# Altium footprint library BGA (1.27mm Pitch, Square4).PcbLib: 21 footprints (part 4 of 6)
Each footprint in its own frame and in the unit in brackets; x right, y up, seen from the top. Pads: shape width x height; smd on the part's side, far side on the other; paste and mask are expansions set on the pad; w line width, h text height; cw(c..) or ccw(c..) is an arc to the next point about the centre after c.
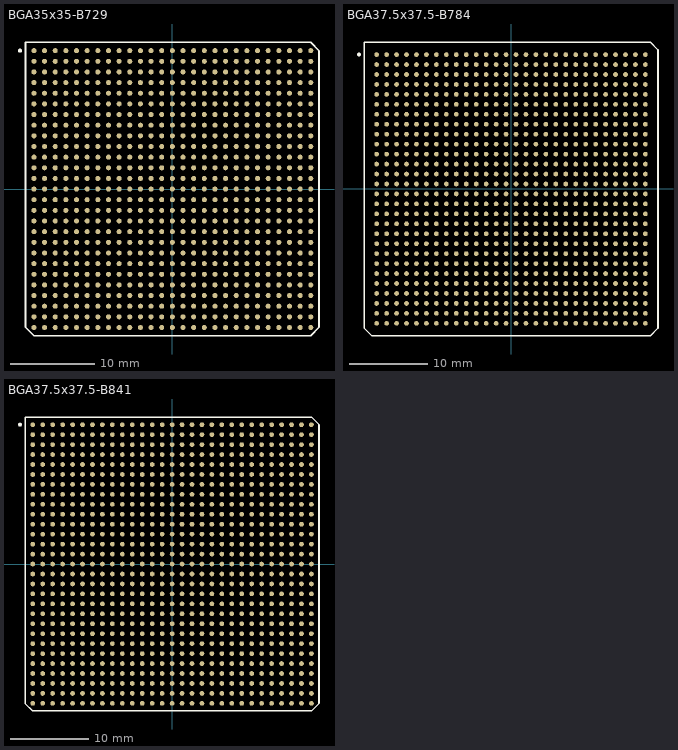
[diagram p3: the footprints below, top view; thin cyan lines are the x and y axes]

## BGA35x35-B729 [mm] "729-Pin Plastic Ball Grid Array (PBGA)"
height 2.54
pads (729):
  round 0.6 smd: A1(-16.51,16.51) A2(-15.24,16.51) A3(-13.97,16.51) A4(-12.7,16.51) A5(-11.43,16.51) A6(-10.16,16.51) A7(-8.89,16.51) A8(-7.62,16.51) A9(-6.35,16.51) A10(-5.08,16.51) A11(-3.81,16.51) A12(-2.54,16.51) A13(-1.27,16.51) A14(0,16.51) A15(1.27,16.51) A16(2.54,16.51) A17(3.81,16.51) A18(5.08,16.51) A19(6.35,16.51) A20(7.62,16.51) A21(8.89,16.51) A22(10.16,16.51) A23(11.43,16.51) A24(12.7,16.51) A25(13.97,16.51) A26(15.24,16.51) A27(16.51,16.51) AA1(-16.51,-8.89) AA2(-15.24,-8.89) AA3(-13.97,-8.89) AA4(-12.7,-8.89) AA5(-11.43,-8.89) AA6(-10.16,-8.89) AA7(-8.89,-8.89) AA8(-7.62,-8.89) AA9(-6.35,-8.89) AA10(-5.08,-8.89) AA11(-3.81,-8.89) AA12(-2.54,-8.89) AA13(-1.27,-8.89) AA14(0,-8.89) AA15(1.27,-8.89) AA16(2.54,-8.89) AA17(3.81,-8.89) AA18(5.08,-8.89) AA19(6.35,-8.89) AA20(7.62,-8.89) AA21(8.89,-8.89) AA22(10.16,-8.89) AA23(11.43,-8.89) AA24(12.7,-8.89) AA25(13.97,-8.89) AA26(15.24,-8.89) AA27(16.51,-8.89) AB1(-16.51,-10.16) AB2(-15.24,-10.16) AB3(-13.97,-10.16) AB4(-12.7,-10.16) AB5(-11.43,-10.16) AB6(-10.16,-10.16) AB7(-8.89,-10.16) AB8(-7.62,-10.16) AB9(-6.35,-10.16) AB10(-5.08,-10.16) AB11(-3.81,-10.16) AB12(-2.54,-10.16) AB13(-1.27,-10.16) AB14(0,-10.16) AB15(1.27,-10.16) AB16(2.54,-10.16) AB17(3.81,-10.16) AB18(5.08,-10.16) AB19(6.35,-10.16) AB20(7.62,-10.16) AB21(8.89,-10.16) AB22(10.16,-10.16) AB23(11.43,-10.16) AB24(12.7,-10.16) AB25(13.97,-10.16) AB26(15.24,-10.16) AB27(16.51,-10.16) AC1(-16.51,-11.43) AC2(-15.24,-11.43) AC3(-13.97,-11.43) AC4(-12.7,-11.43) AC5(-11.43,-11.43) AC6(-10.16,-11.43) AC7(-8.89,-11.43) AC8(-7.62,-11.43) AC9(-6.35,-11.43) AC10(-5.08,-11.43) AC11(-3.81,-11.43) AC12(-2.54,-11.43) AC13(-1.27,-11.43) AC14(0,-11.43) AC15(1.27,-11.43) AC16(2.54,-11.43) AC17(3.81,-11.43) AC18(5.08,-11.43) AC19(6.35,-11.43) AC20(7.62,-11.43) AC21(8.89,-11.43) AC22(10.16,-11.43) AC23(11.43,-11.43) AC24(12.7,-11.43) AC25(13.97,-11.43) AC26(15.24,-11.43) AC27(16.51,-11.43) AD1(-16.51,-12.7) AD2(-15.24,-12.7) AD3(-13.97,-12.7) AD4(-12.7,-12.7) AD5(-11.43,-12.7) AD6(-10.16,-12.7) AD7(-8.89,-12.7) AD8(-7.62,-12.7) AD9(-6.35,-12.7) AD10(-5.08,-12.7) AD11(-3.81,-12.7) AD12(-2.54,-12.7) AD13(-1.27,-12.7) AD14(0,-12.7) AD15(1.27,-12.7) AD16(2.54,-12.7) AD17(3.81,-12.7) AD18(5.08,-12.7) AD19(6.35,-12.7) AD20(7.62,-12.7) AD21(8.89,-12.7) AD22(10.16,-12.7) AD23(11.43,-12.7) AD24(12.7,-12.7) AD25(13.97,-12.7) AD26(15.24,-12.7) AD27(16.51,-12.7) AE1(-16.51,-13.97) AE2(-15.24,-13.97) AE3(-13.97,-13.97) AE4(-12.7,-13.97) AE5(-11.43,-13.97) AE6(-10.16,-13.97) AE7(-8.89,-13.97) AE8(-7.62,-13.97) AE9(-6.35,-13.97) AE10(-5.08,-13.97) AE11(-3.81,-13.97) AE12(-2.54,-13.97) AE13(-1.27,-13.97) AE14(0,-13.97) AE15(1.27,-13.97) AE16(2.54,-13.97) AE17(3.81,-13.97) AE18(5.08,-13.97) AE19(6.35,-13.97) AE20(7.62,-13.97) AE21(8.89,-13.97) AE22(10.16,-13.97) AE23(11.43,-13.97) AE24(12.7,-13.97) AE25(13.97,-13.97) AE26(15.24,-13.97) AE27(16.51,-13.97) AF1(-16.51,-15.24) AF2(-15.24,-15.24) AF3(-13.97,-15.24) AF4(-12.7,-15.24) AF5(-11.43,-15.24) AF6(-10.16,-15.24) AF7(-8.89,-15.24) AF8(-7.62,-15.24) AF9(-6.35,-15.24) AF10(-5.08,-15.24) AF11(-3.81,-15.24) AF12(-2.54,-15.24) AF13(-1.27,-15.24) AF14(0,-15.24) AF15(1.27,-15.24) AF16(2.54,-15.24) AF17(3.81,-15.24) AF18(5.08,-15.24) AF19(6.35,-15.24) AF20(7.62,-15.24) AF21(8.89,-15.24) AF22(10.16,-15.24) AF23(11.43,-15.24) AF24(12.7,-15.24) AF25(13.97,-15.24) AF26(15.24,-15.24) AF27(16.51,-15.24) AG1(-16.51,-16.51) AG2(-15.24,-16.51) AG3(-13.97,-16.51) AG4(-12.7,-16.51) AG5(-11.43,-16.51) AG6(-10.16,-16.51) AG7(-8.89,-16.51) AG8(-7.62,-16.51) AG9(-6.35,-16.51) AG10(-5.08,-16.51) AG11(-3.81,-16.51) AG12(-2.54,-16.51) AG13(-1.27,-16.51) AG14(0,-16.51) AG15(1.27,-16.51) AG16(2.54,-16.51) AG17(3.81,-16.51) AG18(5.08,-16.51) AG19(6.35,-16.51) AG20(7.62,-16.51) AG21(8.89,-16.51) AG22(10.16,-16.51) AG23(11.43,-16.51) AG24(12.7,-16.51) AG25(13.97,-16.51) AG26(15.24,-16.51) AG27(16.51,-16.51) B1(-16.51,15.24) B2(-15.24,15.24) B3(-13.97,15.24) B4(-12.7,15.24) B5(-11.43,15.24) B6(-10.16,15.24) B7(-8.89,15.24) B8(-7.62,15.24) B9(-6.35,15.24) B10(-5.08,15.24) B11(-3.81,15.24) B12(-2.54,15.24) B13(-1.27,15.24) B14(0,15.24) B15(1.27,15.24) B16(2.54,15.24) B17(3.81,15.24) B18(5.08,15.24) B19(6.35,15.24) B20(7.62,15.24) B21(8.89,15.24) B22(10.16,15.24) B23(11.43,15.24) B24(12.7,15.24) B25(13.97,15.24) B26(15.24,15.24) B27(16.51,15.24) C1(-16.51,13.97) C2(-15.24,13.97) C3(-13.97,13.97) C4(-12.7,13.97) C5(-11.43,13.97) C6(-10.16,13.97) C7(-8.89,13.97) C8(-7.62,13.97) C9(-6.35,13.97) C10(-5.08,13.97) C11(-3.81,13.97) C12(-2.54,13.97) C13(-1.27,13.97) C14(0,13.97) C15(1.27,13.97) C16(2.54,13.97) C17(3.81,13.97) C18(5.08,13.97) C19(6.35,13.97) C20(7.62,13.97) C21(8.89,13.97) C22(10.16,13.97) C23(11.43,13.97) C24(12.7,13.97) C25(13.97,13.97) C26(15.24,13.97) C27(16.51,13.97) D1(-16.51,12.7) D2(-15.24,12.7) D3(-13.97,12.7) D4(-12.7,12.7) D5(-11.43,12.7) D6(-10.16,12.7) D7(-8.89,12.7) D8(-7.62,12.7) D9(-6.35,12.7) D10(-5.08,12.7) D11(-3.81,12.7) D12(-2.54,12.7) D13(-1.27,12.7) D14(0,12.7) D15(1.27,12.7) D16(2.54,12.7) D17(3.81,12.7) D18(5.08,12.7) D19(6.35,12.7) D20(7.62,12.7) D21(8.89,12.7) D22(10.16,12.7) D23(11.43,12.7) D24(12.7,12.7) D25(13.97,12.7) D26(15.24,12.7) D27(16.51,12.7) E1(-16.51,11.43) E2(-15.24,11.43) E3(-13.97,11.43) E4(-12.7,11.43) E5(-11.43,11.43) E6(-10.16,11.43) E7(-8.89,11.43) E8(-7.62,11.43) E9(-6.35,11.43) E10(-5.08,11.43) E11(-3.81,11.43) E12(-2.54,11.43) E13(-1.27,11.43) E14(0,11.43) E15(1.27,11.43) E16(2.54,11.43) E17(3.81,11.43) E18(5.08,11.43) E19(6.35,11.43) E20(7.62,11.43) E21(8.89,11.43) E22(10.16,11.43) E23(11.43,11.43) E24(12.7,11.43) E25(13.97,11.43) E26(15.24,11.43) E27(16.51,11.43) F1(-16.51,10.16) F2(-15.24,10.16) F3(-13.97,10.16) F4(-12.7,10.16) F5(-11.43,10.16) F6(-10.16,10.16) F7(-8.89,10.16) F8(-7.62,10.16) F9(-6.35,10.16) F10(-5.08,10.16) F11(-3.81,10.16) F12(-2.54,10.16) F13(-1.27,10.16) F14(0,10.16) F15(1.27,10.16) F16(2.54,10.16) F17(3.81,10.16) F18(5.08,10.16) F19(6.35,10.16) F20(7.62,10.16) F21(8.89,10.16) F22(10.16,10.16) F23(11.43,10.16) F24(12.7,10.16) F25(13.97,10.16) F26(15.24,10.16) F27(16.51,10.16) G1(-16.51,8.89) G2(-15.24,8.89) G3(-13.97,8.89) G4(-12.7,8.89) G5(-11.43,8.89) G6(-10.16,8.89) G7(-8.89,8.89) G8(-7.62,8.89) G9(-6.35,8.89) G10(-5.08,8.89) G11(-3.81,8.89) G12(-2.54,8.89) G13(-1.27,8.89) G14(0,8.89) G15(1.27,8.89) G16(2.54,8.89) G17(3.81,8.89) G18(5.08,8.89) G19(6.35,8.89) G20(7.62,8.89) G21(8.89,8.89) G22(10.16,8.89) G23(11.43,8.89) G24(12.7,8.89) G25(13.97,8.89) G26(15.24,8.89) G27(16.51,8.89) H1(-16.51,7.62) H2(-15.24,7.62) H3(-13.97,7.62) H4(-12.7,7.62) H5(-11.43,7.62) H6(-10.16,7.62) H7(-8.89,7.62) H8(-7.62,7.62) H9(-6.35,7.62) H10(-5.08,7.62) H11(-3.81,7.62) H12(-2.54,7.62) H13(-1.27,7.62) H14(0,7.62) H15(1.27,7.62) H16(2.54,7.62) H17(3.81,7.62) H18(5.08,7.62) H19(6.35,7.62) H20(7.62,7.62) H21(8.89,7.62) H22(10.16,7.62) H23(11.43,7.62) H24(12.7,7.62) H25(13.97,7.62) H26(15.24,7.62) H27(16.51,7.62) J1(-16.51,6.35) J2(-15.24,6.35) J3(-13.97,6.35) J4(-12.7,6.35) J5(-11.43,6.35) J6(-10.16,6.35) J7(-8.89,6.35) J8(-7.62,6.35) J9(-6.35,6.35) J10(-5.08,6.35) J11(-3.81,6.35) J12(-2.54,6.35) J13(-1.27,6.35) J14(0,6.35) J15(1.27,6.35) J16(2.54,6.35) J17(3.81,6.35) J18(5.08,6.35) J19(6.35,6.35) J20(7.62,6.35) J21(8.89,6.35) J22(10.16,6.35) J23(11.43,6.35) J24(12.7,6.35) J25(13.97,6.35) J26(15.24,6.35) J27(16.51,6.35) K1(-16.51,5.08) K2(-15.24,5.08) K3(-13.97,5.08) K4(-12.7,5.08) K5(-11.43,5.08) K6(-10.16,5.08) K7(-8.89,5.08) K8(-7.62,5.08) K9(-6.35,5.08) K10(-5.08,5.08) K11(-3.81,5.08) K12(-2.54,5.08) K13(-1.27,5.08) K14(0,5.08) K15(1.27,5.08) K16(2.54,5.08) K17(3.81,5.08) K18(5.08,5.08) K19(6.35,5.08) K20(7.62,5.08) K21(8.89,5.08) K22(10.16,5.08) K23(11.43,5.08) K24(12.7,5.08) K25(13.97,5.08) K26(15.24,5.08) K27(16.51,5.08) L1(-16.51,3.81) L2(-15.24,3.81) L3(-13.97,3.81) L4(-12.7,3.81) L5(-11.43,3.81) L6(-10.16,3.81) L7(-8.89,3.81) L8(-7.62,3.81) L9(-6.35,3.81) L10(-5.08,3.81) L11(-3.81,3.81) L12(-2.54,3.81) L13(-1.27,3.81) L14(0,3.81) L15(1.27,3.81) L16(2.54,3.81) L17(3.81,3.81) L18(5.08,3.81) L19(6.35,3.81) L20(7.62,3.81) L21(8.89,3.81) L22(10.16,3.81) L23(11.43,3.81) L24(12.7,3.81) L25(13.97,3.81) L26(15.24,3.81) L27(16.51,3.81) M1(-16.51,2.54) M2(-15.24,2.54) M3(-13.97,2.54) M4(-12.7,2.54) M5(-11.43,2.54) M6(-10.16,2.54) M7(-8.89,2.54) M8(-7.62,2.54) M9(-6.35,2.54) M10(-5.08,2.54) M11(-3.81,2.54) M12(-2.54,2.54) M13(-1.27,2.54) M14(0,2.54) M15(1.27,2.54) M16(2.54,2.54) M17(3.81,2.54) M18(5.08,2.54) M19(6.35,2.54) M20(7.62,2.54) M21(8.89,2.54) M22(10.16,2.54) M23(11.43,2.54) M24(12.7,2.54) M25(13.97,2.54) M26(15.24,2.54) M27(16.51,2.54) N1(-16.51,1.27) N2(-15.24,1.27) N3(-13.97,1.27) N4(-12.7,1.27) N5(-11.43,1.27) N6(-10.16,1.27) N7(-8.89,1.27) N8(-7.62,1.27) N9(-6.35,1.27) N10(-5.08,1.27) N11(-3.81,1.27) N12(-2.54,1.27) N13(-1.27,1.27) N14(0,1.27) N15(1.27,1.27) N16(2.54,1.27) N17(3.81,1.27) N18(5.08,1.27) N19(6.35,1.27) N20(7.62,1.27) N21(8.89,1.27) N22(10.16,1.27) N23(11.43,1.27) N24(12.7,1.27) N25(13.97,1.27) N26(15.24,1.27) N27(16.51,1.27) P1(-16.51,0) P2(-15.24,0) P3(-13.97,0) P4(-12.7,0) P5(-11.43,0) P6(-10.16,0) P7(-8.89,0) P8(-7.62,0) P9(-6.35,0) P10(-5.08,0) P11(-3.81,0) P12(-2.54,0) P13(-1.27,0) P14(0,0) P15(1.27,0) P16(2.54,0) P17(3.81,0) P18(5.08,0) P19(6.35,0) P20(7.62,0) P21(8.89,0) P22(10.16,0) P23(11.43,0) P24(12.7,0) P25(13.97,0) P26(15.24,0) P27(16.51,0) R1(-16.51,-1.27) R2(-15.24,-1.27) R3(-13.97,-1.27) R4(-12.7,-1.27) R5(-11.43,-1.27) R6(-10.16,-1.27) R7(-8.89,-1.27) R8(-7.62,-1.27) R9(-6.35,-1.27) R10(-5.08,-1.27) R11(-3.81,-1.27) R12(-2.54,-1.27) R13(-1.27,-1.27) R14(0,-1.27) R15(1.27,-1.27) R16(2.54,-1.27) R17(3.81,-1.27) R18(5.08,-1.27) R19(6.35,-1.27) R20(7.62,-1.27) R21(8.89,-1.27) R22(10.16,-1.27) R23(11.43,-1.27) R24(12.7,-1.27) R25(13.97,-1.27) R26(15.24,-1.27) R27(16.51,-1.27) T1(-16.51,-2.54) T2(-15.24,-2.54) T3(-13.97,-2.54) T4(-12.7,-2.54) T5(-11.43,-2.54) T6(-10.16,-2.54) T7(-8.89,-2.54) T8(-7.62,-2.54) T9(-6.35,-2.54) T10(-5.08,-2.54) T11(-3.81,-2.54) T12(-2.54,-2.54) T13(-1.27,-2.54) T14(0,-2.54) T15(1.27,-2.54) T16(2.54,-2.54) T17(3.81,-2.54) T18(5.08,-2.54) T19(6.35,-2.54) T20(7.62,-2.54) T21(8.89,-2.54) T22(10.16,-2.54) T23(11.43,-2.54) T24(12.7,-2.54) T25(13.97,-2.54) T26(15.24,-2.54) T27(16.51,-2.54) U1(-16.51,-3.81) U2(-15.24,-3.81) U3(-13.97,-3.81) U4(-12.7,-3.81) U5(-11.43,-3.81) U6(-10.16,-3.81) U7(-8.89,-3.81) U8(-7.62,-3.81) U9(-6.35,-3.81) U10(-5.08,-3.81) U11(-3.81,-3.81) U12(-2.54,-3.81) U13(-1.27,-3.81) U14(0,-3.81) U15(1.27,-3.81) U16(2.54,-3.81) U17(3.81,-3.81) U18(5.08,-3.81) U19(6.35,-3.81) U20(7.62,-3.81) U21(8.89,-3.81) U22(10.16,-3.81) U23(11.43,-3.81) U24(12.7,-3.81) U25(13.97,-3.81) U26(15.24,-3.81) U27(16.51,-3.81) V1(-16.51,-5.08) V2(-15.24,-5.08) V3(-13.97,-5.08) V4(-12.7,-5.08) V5(-11.43,-5.08) V6(-10.16,-5.08) V7(-8.89,-5.08) V8(-7.62,-5.08) V9(-6.35,-5.08) V10(-5.08,-5.08) V11(-3.81,-5.08) V12(-2.54,-5.08) V13(-1.27,-5.08) V14(0,-5.08) V15(1.27,-5.08) V16(2.54,-5.08) V17(3.81,-5.08) V18(5.08,-5.08) V19(6.35,-5.08) V20(7.62,-5.08) V21(8.89,-5.08) V22(10.16,-5.08) V23(11.43,-5.08) V24(12.7,-5.08) V25(13.97,-5.08) V26(15.24,-5.08) V27(16.51,-5.08) W1(-16.51,-6.35) W2(-15.24,-6.35) W3(-13.97,-6.35) W4(-12.7,-6.35) W5(-11.43,-6.35) W6(-10.16,-6.35) W7(-8.89,-6.35) W8(-7.62,-6.35) W9(-6.35,-6.35) W10(-5.08,-6.35) W11(-3.81,-6.35) W12(-2.54,-6.35) W13(-1.27,-6.35) W14(0,-6.35) W15(1.27,-6.35) W16(2.54,-6.35) W17(3.81,-6.35) W18(5.08,-6.35) W19(6.35,-6.35) W20(7.62,-6.35) W21(8.89,-6.35) W22(10.16,-6.35) W23(11.43,-6.35) W24(12.7,-6.35) W25(13.97,-6.35) W26(15.24,-6.35) W27(16.51,-6.35) Y1(-16.51,-7.62) Y2(-15.24,-7.62) Y3(-13.97,-7.62) Y4(-12.7,-7.62) Y5(-11.43,-7.62) Y6(-10.16,-7.62) Y7(-8.89,-7.62) Y8(-7.62,-7.62) Y9(-6.35,-7.62) Y10(-5.08,-7.62) Y11(-3.81,-7.62) Y12(-2.54,-7.62) Y13(-1.27,-7.62) Y14(0,-7.62) Y15(1.27,-7.62) Y16(2.54,-7.62) Y17(3.81,-7.62) Y18(5.08,-7.62) Y19(6.35,-7.62) Y20(7.62,-7.62) Y21(8.89,-7.62) Y22(10.16,-7.62) Y23(11.43,-7.62) Y24(12.7,-7.62) Y25(13.97,-7.62) Y26(15.24,-7.62) Y27(16.51,-7.62)
Top Overlay:
  circle w0.25: c-18.165,16.51 r0.125
  lines w0.2: -17.51,-16.49 -17.51,17.51 16.49,17.51 17.49,16.51 17.49,-16.49 16.49,-17.49 -16.51,-17.49 -17.51,-16.49

## BGA37.5x37.5-B784 [mm] "BGA; 784 Balls; Body 37.5 x 37.5 mm; Pitch 1.27 mm"
height 3.5
pads (784):
  round 0.6 smd: A1(-17.145,17.145) A2(-15.875,17.145) A3(-14.605,17.145) A4(-13.335,17.145) A5(-12.065,17.145) A6(-10.795,17.145) A7(-9.525,17.145) A8(-8.255,17.145) A9(-6.985,17.145) A10(-5.715,17.145) A11(-4.445,17.145) A12(-3.175,17.145) A13(-1.905,17.145) A14(-0.635,17.145) A15(0.635,17.145) A16(1.905,17.145) A17(3.175,17.145) A18(4.445,17.145) A19(5.715,17.145) A20(6.985,17.145) A21(8.255,17.145) A22(9.525,17.145) A23(10.795,17.145) A24(12.065,17.145) A25(13.335,17.145) A26(14.605,17.145) A27(15.875,17.145) A28(17.145,17.145) AA1(-17.145,-8.255) AA2(-15.875,-8.255) AA3(-14.605,-8.255) AA4(-13.335,-8.255) AA5(-12.065,-8.255) AA6(-10.795,-8.255) AA7(-9.525,-8.255) AA8(-8.255,-8.255) AA9(-6.985,-8.255) AA10(-5.715,-8.255) AA11(-4.445,-8.255) AA12(-3.175,-8.255) AA13(-1.905,-8.255) AA14(-0.635,-8.255) AA15(0.635,-8.255) AA16(1.905,-8.255) AA17(3.175,-8.255) AA18(4.445,-8.255) AA19(5.715,-8.255) AA20(6.985,-8.255) AA21(8.255,-8.255) AA22(9.525,-8.255) AA23(10.795,-8.255) AA24(12.065,-8.255) AA25(13.335,-8.255) AA26(14.605,-8.255) AA27(15.875,-8.255) AA28(17.145,-8.255) AB1(-17.145,-9.525) AB2(-15.875,-9.525) AB3(-14.605,-9.525) AB4(-13.335,-9.525) AB5(-12.065,-9.525) AB6(-10.795,-9.525) AB7(-9.525,-9.525) AB8(-8.255,-9.525) AB9(-6.985,-9.525) AB10(-5.715,-9.525) AB11(-4.445,-9.525) AB12(-3.175,-9.525) AB13(-1.905,-9.525) AB14(-0.635,-9.525) AB15(0.635,-9.525) AB16(1.905,-9.525) AB17(3.175,-9.525) AB18(4.445,-9.525) AB19(5.715,-9.525) AB20(6.985,-9.525) AB21(8.255,-9.525) AB22(9.525,-9.525) AB23(10.795,-9.525) AB24(12.065,-9.525) AB25(13.335,-9.525) AB26(14.605,-9.525) AB27(15.875,-9.525) AB28(17.145,-9.525) AC1(-17.145,-10.795) AC2(-15.875,-10.795) AC3(-14.605,-10.795) AC4(-13.335,-10.795) AC5(-12.065,-10.795) AC6(-10.795,-10.795) AC7(-9.525,-10.795) AC8(-8.255,-10.795) AC9(-6.985,-10.795) AC10(-5.715,-10.795) AC11(-4.445,-10.795) AC12(-3.175,-10.795) AC13(-1.905,-10.795) AC14(-0.635,-10.795) AC15(0.635,-10.795) AC16(1.905,-10.795) AC17(3.175,-10.795) AC18(4.445,-10.795) AC19(5.715,-10.795) AC20(6.985,-10.795) AC21(8.255,-10.795) AC22(9.525,-10.795) AC23(10.795,-10.795) AC24(12.065,-10.795) AC25(13.335,-10.795) AC26(14.605,-10.795) AC27(15.875,-10.795) AC28(17.145,-10.795) AD1(-17.145,-12.065) AD2(-15.875,-12.065) AD3(-14.605,-12.065) AD4(-13.335,-12.065) AD5(-12.065,-12.065) AD6(-10.795,-12.065) AD7(-9.525,-12.065) AD8(-8.255,-12.065) AD9(-6.985,-12.065) AD10(-5.715,-12.065) AD11(-4.445,-12.065) AD12(-3.175,-12.065) AD13(-1.905,-12.065) AD14(-0.635,-12.065) AD15(0.635,-12.065) AD16(1.905,-12.065) AD17(3.175,-12.065) AD18(4.445,-12.065) AD19(5.715,-12.065) AD20(6.985,-12.065) AD21(8.255,-12.065) AD22(9.525,-12.065) AD23(10.795,-12.065) AD24(12.065,-12.065) AD25(13.335,-12.065) AD26(14.605,-12.065) AD27(15.875,-12.065) AD28(17.145,-12.065) AE1(-17.145,-13.335) AE2(-15.875,-13.335) AE3(-14.605,-13.335) AE4(-13.335,-13.335) AE5(-12.065,-13.335) AE6(-10.795,-13.335) AE7(-9.525,-13.335) AE8(-8.255,-13.335) AE9(-6.985,-13.335) AE10(-5.715,-13.335) AE11(-4.445,-13.335) AE12(-3.175,-13.335) AE13(-1.905,-13.335) AE14(-0.635,-13.335) AE15(0.635,-13.335) AE16(1.905,-13.335) AE17(3.175,-13.335) AE18(4.445,-13.335) AE19(5.715,-13.335) AE20(6.985,-13.335) AE21(8.255,-13.335) AE22(9.525,-13.335) AE23(10.795,-13.335) AE24(12.065,-13.335) AE25(13.335,-13.335) AE26(14.605,-13.335) AE27(15.875,-13.335) AE28(17.145,-13.335) AF1(-17.145,-14.605) AF2(-15.875,-14.605) AF3(-14.605,-14.605) AF4(-13.335,-14.605) AF5(-12.065,-14.605) AF6(-10.795,-14.605) AF7(-9.525,-14.605) AF8(-8.255,-14.605) AF9(-6.985,-14.605) AF10(-5.715,-14.605) AF11(-4.445,-14.605) AF12(-3.175,-14.605) AF13(-1.905,-14.605) AF14(-0.635,-14.605) AF15(0.635,-14.605) AF16(1.905,-14.605) AF17(3.175,-14.605) AF18(4.445,-14.605) AF19(5.715,-14.605) AF20(6.985,-14.605) AF21(8.255,-14.605) AF22(9.525,-14.605) AF23(10.795,-14.605) AF24(12.065,-14.605) AF25(13.335,-14.605) AF26(14.605,-14.605) AF27(15.875,-14.605) AF28(17.145,-14.605) AG1(-17.145,-15.875) AG2(-15.875,-15.875) AG3(-14.605,-15.875) AG4(-13.335,-15.875) AG5(-12.065,-15.875) AG6(-10.795,-15.875) AG7(-9.525,-15.875) AG8(-8.255,-15.875) AG9(-6.985,-15.875) AG10(-5.715,-15.875) AG11(-4.445,-15.875) AG12(-3.175,-15.875) AG13(-1.905,-15.875) AG14(-0.635,-15.875) AG15(0.635,-15.875) AG16(1.905,-15.875) AG17(3.175,-15.875) AG18(4.445,-15.875) AG19(5.715,-15.875) AG20(6.985,-15.875) AG21(8.255,-15.875) AG22(9.525,-15.875) AG23(10.795,-15.875) AG24(12.065,-15.875) AG25(13.335,-15.875) AG26(14.605,-15.875) AG27(15.875,-15.875) AG28(17.145,-15.875) AH1(-17.145,-17.145) AH2(-15.875,-17.145) AH3(-14.605,-17.145) AH4(-13.335,-17.145) AH5(-12.065,-17.145) AH6(-10.795,-17.145) AH7(-9.525,-17.145) AH8(-8.255,-17.145) AH9(-6.985,-17.145) AH10(-5.715,-17.145) AH11(-4.445,-17.145) AH12(-3.175,-17.145) AH13(-1.905,-17.145) AH14(-0.635,-17.145) AH15(0.635,-17.145) AH16(1.905,-17.145) AH17(3.175,-17.145) AH18(4.445,-17.145) AH19(5.715,-17.145) AH20(6.985,-17.145) AH21(8.255,-17.145) AH22(9.525,-17.145) AH23(10.795,-17.145) AH24(12.065,-17.145) AH25(13.335,-17.145) AH26(14.605,-17.145) AH27(15.875,-17.145) AH28(17.145,-17.145) B1(-17.145,15.875) B2(-15.875,15.875) B3(-14.605,15.875) B4(-13.335,15.875) B5(-12.065,15.875) B6(-10.795,15.875) B7(-9.525,15.875) B8(-8.255,15.875) B9(-6.985,15.875) B10(-5.715,15.875) B11(-4.445,15.875) B12(-3.175,15.875) B13(-1.905,15.875) B14(-0.635,15.875) B15(0.635,15.875) B16(1.905,15.875) B17(3.175,15.875) B18(4.445,15.875) B19(5.715,15.875) B20(6.985,15.875) B21(8.255,15.875) B22(9.525,15.875) B23(10.795,15.875) B24(12.065,15.875) B25(13.335,15.875) B26(14.605,15.875) B27(15.875,15.875) B28(17.145,15.875) C1(-17.145,14.605) C2(-15.875,14.605) C3(-14.605,14.605) C4(-13.335,14.605) C5(-12.065,14.605) C6(-10.795,14.605) C7(-9.525,14.605) C8(-8.255,14.605) C9(-6.985,14.605) C10(-5.715,14.605) C11(-4.445,14.605) C12(-3.175,14.605) C13(-1.905,14.605) C14(-0.635,14.605) C15(0.635,14.605) C16(1.905,14.605) C17(3.175,14.605) C18(4.445,14.605) C19(5.715,14.605) C20(6.985,14.605) C21(8.255,14.605) C22(9.525,14.605) C23(10.795,14.605) C24(12.065,14.605) C25(13.335,14.605) C26(14.605,14.605) C27(15.875,14.605) C28(17.145,14.605) D1(-17.145,13.335) D2(-15.875,13.335) D3(-14.605,13.335) D4(-13.335,13.335) D5(-12.065,13.335) D6(-10.795,13.335) D7(-9.525,13.335) D8(-8.255,13.335) D9(-6.985,13.335) D10(-5.715,13.335) D11(-4.445,13.335) D12(-3.175,13.335) D13(-1.905,13.335) D14(-0.635,13.335) D15(0.635,13.335) D16(1.905,13.335) D17(3.175,13.335) D18(4.445,13.335) D19(5.715,13.335) D20(6.985,13.335) D21(8.255,13.335) D22(9.525,13.335) D23(10.795,13.335) D24(12.065,13.335) D25(13.335,13.335) D26(14.605,13.335) D27(15.875,13.335) D28(17.145,13.335) E1(-17.145,12.065) E2(-15.875,12.065) E3(-14.605,12.065) E4(-13.335,12.065) E5(-12.065,12.065) E6(-10.795,12.065) E7(-9.525,12.065) E8(-8.255,12.065) E9(-6.985,12.065) E10(-5.715,12.065) E11(-4.445,12.065) E12(-3.175,12.065) E13(-1.905,12.065) E14(-0.635,12.065) E15(0.635,12.065) E16(1.905,12.065) E17(3.175,12.065) E18(4.445,12.065) E19(5.715,12.065) E20(6.985,12.065) E21(8.255,12.065) E22(9.525,12.065) E23(10.795,12.065) E24(12.065,12.065) E25(13.335,12.065) E26(14.605,12.065) E27(15.875,12.065) E28(17.145,12.065) F1(-17.145,10.795) F2(-15.875,10.795) F3(-14.605,10.795) F4(-13.335,10.795) F5(-12.065,10.795) F6(-10.795,10.795) F7(-9.525,10.795) F8(-8.255,10.795) F9(-6.985,10.795) F10(-5.715,10.795) F11(-4.445,10.795) F12(-3.175,10.795) F13(-1.905,10.795) F14(-0.635,10.795) F15(0.635,10.795) F16(1.905,10.795) F17(3.175,10.795) F18(4.445,10.795) F19(5.715,10.795) F20(6.985,10.795) F21(8.255,10.795) F22(9.525,10.795) F23(10.795,10.795) F24(12.065,10.795) F25(13.335,10.795) F26(14.605,10.795) F27(15.875,10.795) F28(17.145,10.795) G1(-17.145,9.525) G2(-15.875,9.525) G3(-14.605,9.525) G4(-13.335,9.525) G5(-12.065,9.525) G6(-10.795,9.525) G7(-9.525,9.525) G8(-8.255,9.525) G9(-6.985,9.525) G10(-5.715,9.525) G11(-4.445,9.525) G12(-3.175,9.525) G13(-1.905,9.525) G14(-0.635,9.525) G15(0.635,9.525) G16(1.905,9.525) G17(3.175,9.525) G18(4.445,9.525) G19(5.715,9.525) G20(6.985,9.525) G21(8.255,9.525) G22(9.525,9.525) G23(10.795,9.525) G24(12.065,9.525) G25(13.335,9.525) G26(14.605,9.525) G27(15.875,9.525) G28(17.145,9.525) H1(-17.145,8.255) H2(-15.875,8.255) H3(-14.605,8.255) H4(-13.335,8.255) H5(-12.065,8.255) H6(-10.795,8.255) H7(-9.525,8.255) H8(-8.255,8.255) H9(-6.985,8.255) H10(-5.715,8.255) H11(-4.445,8.255) H12(-3.175,8.255) H13(-1.905,8.255) H14(-0.635,8.255) H15(0.635,8.255) H16(1.905,8.255) H17(3.175,8.255) H18(4.445,8.255) H19(5.715,8.255) H20(6.985,8.255) H21(8.255,8.255) H22(9.525,8.255) H23(10.795,8.255) H24(12.065,8.255) H25(13.335,8.255) H26(14.605,8.255) H27(15.875,8.255) H28(17.145,8.255) J1(-17.145,6.985) J2(-15.875,6.985) J3(-14.605,6.985) J4(-13.335,6.985) J5(-12.065,6.985) J6(-10.795,6.985) J7(-9.525,6.985) J8(-8.255,6.985) J9(-6.985,6.985) J10(-5.715,6.985) J11(-4.445,6.985) J12(-3.175,6.985) J13(-1.905,6.985) J14(-0.635,6.985) J15(0.635,6.985) J16(1.905,6.985) J17(3.175,6.985) J18(4.445,6.985) J19(5.715,6.985) J20(6.985,6.985) J21(8.255,6.985) J22(9.525,6.985) J23(10.795,6.985) J24(12.065,6.985) J25(13.335,6.985) J26(14.605,6.985) J27(15.875,6.985) J28(17.145,6.985) K1(-17.145,5.715) K2(-15.875,5.715) K3(-14.605,5.715) K4(-13.335,5.715) K5(-12.065,5.715) K6(-10.795,5.715) K7(-9.525,5.715) K8(-8.255,5.715) K9(-6.985,5.715) K10(-5.715,5.715) K11(-4.445,5.715) K12(-3.175,5.715) K13(-1.905,5.715) K14(-0.635,5.715) K15(0.635,5.715) K16(1.905,5.715) K17(3.175,5.715) K18(4.445,5.715) K19(5.715,5.715) K20(6.985,5.715) K21(8.255,5.715) K22(9.525,5.715) K23(10.795,5.715) K24(12.065,5.715) K25(13.335,5.715) K26(14.605,5.715) K27(15.875,5.715) K28(17.145,5.715) L1(-17.145,4.445) L2(-15.875,4.445) L3(-14.605,4.445) L4(-13.335,4.445) L5(-12.065,4.445) L6(-10.795,4.445) L7(-9.525,4.445) L8(-8.255,4.445) L9(-6.985,4.445) L10(-5.715,4.445) L11(-4.445,4.445) L12(-3.175,4.445) L13(-1.905,4.445) L14(-0.635,4.445) L15(0.635,4.445) L16(1.905,4.445) L17(3.175,4.445) L18(4.445,4.445) L19(5.715,4.445) L20(6.985,4.445) L21(8.255,4.445) L22(9.525,4.445) L23(10.795,4.445) L24(12.065,4.445) L25(13.335,4.445) L26(14.605,4.445) L27(15.875,4.445) L28(17.145,4.445) M1(-17.145,3.175) M2(-15.875,3.175) M3(-14.605,3.175) M4(-13.335,3.175) M5(-12.065,3.175) M6(-10.795,3.175) M7(-9.525,3.175) M8(-8.255,3.175) M9(-6.985,3.175) M10(-5.715,3.175) M11(-4.445,3.175) M12(-3.175,3.175) M13(-1.905,3.175) M14(-0.635,3.175) M15(0.635,3.175) M16(1.905,3.175) M17(3.175,3.175) M18(4.445,3.175) M19(5.715,3.175) M20(6.985,3.175) M21(8.255,3.175) M22(9.525,3.175) M23(10.795,3.175) M24(12.065,3.175) M25(13.335,3.175) M26(14.605,3.175) M27(15.875,3.175) M28(17.145,3.175) N1(-17.145,1.905) N2(-15.875,1.905) N3(-14.605,1.905) N4(-13.335,1.905) N5(-12.065,1.905) N6(-10.795,1.905) N7(-9.525,1.905) N8(-8.255,1.905) N9(-6.985,1.905) N10(-5.715,1.905) N11(-4.445,1.905) N12(-3.175,1.905) N13(-1.905,1.905) N14(-0.635,1.905) N15(0.635,1.905) N16(1.905,1.905) N17(3.175,1.905) N18(4.445,1.905) N19(5.715,1.905) N20(6.985,1.905) N21(8.255,1.905) N22(9.525,1.905) N23(10.795,1.905) N24(12.065,1.905) N25(13.335,1.905) N26(14.605,1.905) N27(15.875,1.905) N28(17.145,1.905) P1(-17.145,0.635) P2(-15.875,0.635) P3(-14.605,0.635) P4(-13.335,0.635) P5(-12.065,0.635) P6(-10.795,0.635) P7(-9.525,0.635) P8(-8.255,0.635) P9(-6.985,0.635) P10(-5.715,0.635) P11(-4.445,0.635) P12(-3.175,0.635) P13(-1.905,0.635) P14(-0.635,0.635) P15(0.635,0.635) P16(1.905,0.635) P17(3.175,0.635) P18(4.445,0.635) P19(5.715,0.635) P20(6.985,0.635) P21(8.255,0.635) P22(9.525,0.635) P23(10.795,0.635) P24(12.065,0.635) P25(13.335,0.635) P26(14.605,0.635) P27(15.875,0.635) P28(17.145,0.635) R1(-17.145,-0.635) R2(-15.875,-0.635) R3(-14.605,-0.635) R4(-13.335,-0.635) R5(-12.065,-0.635) R6(-10.795,-0.635) R7(-9.525,-0.635) R8(-8.255,-0.635) R9(-6.985,-0.635) R10(-5.715,-0.635) R11(-4.445,-0.635) R12(-3.175,-0.635) R13(-1.905,-0.635) R14(-0.635,-0.635) R15(0.635,-0.635) R16(1.905,-0.635) R17(3.175,-0.635) R18(4.445,-0.635) R19(5.715,-0.635) R20(6.985,-0.635) R21(8.255,-0.635) R22(9.525,-0.635) R23(10.795,-0.635) R24(12.065,-0.635) R25(13.335,-0.635) R26(14.605,-0.635) R27(15.875,-0.635) R28(17.145,-0.635) T1(-17.145,-1.905) T2(-15.875,-1.905) T3(-14.605,-1.905) T4(-13.335,-1.905) T5(-12.065,-1.905) T6(-10.795,-1.905) T7(-9.525,-1.905) T8(-8.255,-1.905) T9(-6.985,-1.905) T10(-5.715,-1.905) T11(-4.445,-1.905) T12(-3.175,-1.905) T13(-1.905,-1.905) T14(-0.635,-1.905) T15(0.635,-1.905) T16(1.905,-1.905) T17(3.175,-1.905) T18(4.445,-1.905) T19(5.715,-1.905) T20(6.985,-1.905) T21(8.255,-1.905) T22(9.525,-1.905) T23(10.795,-1.905) T24(12.065,-1.905) T25(13.335,-1.905) T26(14.605,-1.905) T27(15.875,-1.905) T28(17.145,-1.905) U1(-17.145,-3.175) U2(-15.875,-3.175) U3(-14.605,-3.175) U4(-13.335,-3.175) U5(-12.065,-3.175) U6(-10.795,-3.175) U7(-9.525,-3.175) U8(-8.255,-3.175) U9(-6.985,-3.175) U10(-5.715,-3.175) U11(-4.445,-3.175) U12(-3.175,-3.175) U13(-1.905,-3.175) U14(-0.635,-3.175) U15(0.635,-3.175) U16(1.905,-3.175) U17(3.175,-3.175) U18(4.445,-3.175) U19(5.715,-3.175) U20(6.985,-3.175) U21(8.255,-3.175) U22(9.525,-3.175) U23(10.795,-3.175) U24(12.065,-3.175) U25(13.335,-3.175) U26(14.605,-3.175) U27(15.875,-3.175) U28(17.145,-3.175) V1(-17.145,-4.445) V2(-15.875,-4.445) V3(-14.605,-4.445) V4(-13.335,-4.445) V5(-12.065,-4.445) V6(-10.795,-4.445) V7(-9.525,-4.445) V8(-8.255,-4.445) V9(-6.985,-4.445) V10(-5.715,-4.445) V11(-4.445,-4.445) V12(-3.175,-4.445) V13(-1.905,-4.445) V14(-0.635,-4.445) V15(0.635,-4.445) V16(1.905,-4.445) V17(3.175,-4.445) V18(4.445,-4.445) V19(5.715,-4.445) V20(6.985,-4.445) V21(8.255,-4.445) V22(9.525,-4.445) V23(10.795,-4.445) V24(12.065,-4.445) V25(13.335,-4.445) V26(14.605,-4.445) V27(15.875,-4.445) V28(17.145,-4.445) W1(-17.145,-5.715) W2(-15.875,-5.715) W3(-14.605,-5.715) W4(-13.335,-5.715) W5(-12.065,-5.715) W6(-10.795,-5.715) W7(-9.525,-5.715) W8(-8.255,-5.715) W9(-6.985,-5.715) W10(-5.715,-5.715) W11(-4.445,-5.715) W12(-3.175,-5.715) W13(-1.905,-5.715) W14(-0.635,-5.715) W15(0.635,-5.715) W16(1.905,-5.715) W17(3.175,-5.715) W18(4.445,-5.715) W19(5.715,-5.715) W20(6.985,-5.715) W21(8.255,-5.715) W22(9.525,-5.715) W23(10.795,-5.715) W24(12.065,-5.715) W25(13.335,-5.715) W26(14.605,-5.715) W27(15.875,-5.715) W28(17.145,-5.715) Y1(-17.145,-6.985) Y2(-15.875,-6.985) Y3(-14.605,-6.985) Y4(-13.335,-6.985) Y5(-12.065,-6.985) Y6(-10.795,-6.985) Y7(-9.525,-6.985) Y8(-8.255,-6.985) Y9(-6.985,-6.985) Y10(-5.715,-6.985) Y11(-4.445,-6.985) Y12(-3.175,-6.985) Y13(-1.905,-6.985) Y14(-0.635,-6.985) Y15(0.635,-6.985) Y16(1.905,-6.985) Y17(3.175,-6.985) Y18(4.445,-6.985) Y19(5.715,-6.985) Y20(6.985,-6.985) Y21(8.255,-6.985) Y22(9.525,-6.985) Y23(10.795,-6.985) Y24(12.065,-6.985) Y25(13.335,-6.985) Y26(14.605,-6.985) Y27(15.875,-6.985) Y28(17.145,-6.985)
Top Overlay:
  circle w0.25: c-19.4,17.145 r0.125
  lines w0.2: -18.745,-17.755 -17.745,-18.755 17.755,-18.755 18.755,-17.755 18.755,17.745 17.755,18.745 -18.745,18.745 -18.745,-17.755

## BGA37.5x37.5-B841 [mm] "BGA; 841 Balls; Body 37.5 x 37.5 mm; Pitch 1.27 mm"
height 3.5
pads (841):
  round 0.6 smd: A1(-17.78,17.78) A2(-16.51,17.78) A3(-15.24,17.78) A4(-13.97,17.78) A5(-12.7,17.78) A6(-11.43,17.78) A7(-10.16,17.78) A8(-8.89,17.78) A9(-7.62,17.78) A10(-6.35,17.78) A11(-5.08,17.78) A12(-3.81,17.78) A13(-2.54,17.78) A14(-1.27,17.78) A15(0,17.78) A16(1.27,17.78) A17(2.54,17.78) A18(3.81,17.78) A19(5.08,17.78) A20(6.35,17.78) A21(7.62,17.78) A22(8.89,17.78) A23(10.16,17.78) A24(11.43,17.78) A25(12.7,17.78) A26(13.97,17.78) A27(15.24,17.78) A28(16.51,17.78) A29(17.78,17.78) AA1(-17.78,-7.62) AA2(-16.51,-7.62) AA3(-15.24,-7.62) AA4(-13.97,-7.62) AA5(-12.7,-7.62) AA6(-11.43,-7.62) AA7(-10.16,-7.62) AA8(-8.89,-7.62) AA9(-7.62,-7.62) AA10(-6.35,-7.62) AA11(-5.08,-7.62) AA12(-3.81,-7.62) AA13(-2.54,-7.62) AA14(-1.27,-7.62) AA15(0,-7.62) AA16(1.27,-7.62) AA17(2.54,-7.62) AA18(3.81,-7.62) AA19(5.08,-7.62) AA20(6.35,-7.62) AA21(7.62,-7.62) AA22(8.89,-7.62) AA23(10.16,-7.62) AA24(11.43,-7.62) AA25(12.7,-7.62) AA26(13.97,-7.62) AA27(15.24,-7.62) AA28(16.51,-7.62) AA29(17.78,-7.62) AB1(-17.78,-8.89) AB2(-16.51,-8.89) AB3(-15.24,-8.89) AB4(-13.97,-8.89) AB5(-12.7,-8.89) AB6(-11.43,-8.89) AB7(-10.16,-8.89) AB8(-8.89,-8.89) AB9(-7.62,-8.89) AB10(-6.35,-8.89) AB11(-5.08,-8.89) AB12(-3.81,-8.89) AB13(-2.54,-8.89) AB14(-1.27,-8.89) AB15(0,-8.89) AB16(1.27,-8.89) AB17(2.54,-8.89) AB18(3.81,-8.89) AB19(5.08,-8.89) AB20(6.35,-8.89) AB21(7.62,-8.89) AB22(8.89,-8.89) AB23(10.16,-8.89) AB24(11.43,-8.89) AB25(12.7,-8.89) AB26(13.97,-8.89) AB27(15.24,-8.89) AB28(16.51,-8.89) AB29(17.78,-8.89) AC1(-17.78,-10.16) AC2(-16.51,-10.16) AC3(-15.24,-10.16) AC4(-13.97,-10.16) AC5(-12.7,-10.16) AC6(-11.43,-10.16) AC7(-10.16,-10.16) AC8(-8.89,-10.16) AC9(-7.62,-10.16) AC10(-6.35,-10.16) AC11(-5.08,-10.16) AC12(-3.81,-10.16) AC13(-2.54,-10.16) AC14(-1.27,-10.16) AC15(0,-10.16) AC16(1.27,-10.16) AC17(2.54,-10.16) AC18(3.81,-10.16) AC19(5.08,-10.16) AC20(6.35,-10.16) AC21(7.62,-10.16) AC22(8.89,-10.16) AC23(10.16,-10.16) AC24(11.43,-10.16) AC25(12.7,-10.16) AC26(13.97,-10.16) AC27(15.24,-10.16) AC28(16.51,-10.16) AC29(17.78,-10.16) AD1(-17.78,-11.43) AD2(-16.51,-11.43) AD3(-15.24,-11.43) AD4(-13.97,-11.43) AD5(-12.7,-11.43) AD6(-11.43,-11.43) AD7(-10.16,-11.43) AD8(-8.89,-11.43) AD9(-7.62,-11.43) AD10(-6.35,-11.43) AD11(-5.08,-11.43) AD12(-3.81,-11.43) AD13(-2.54,-11.43) AD14(-1.27,-11.43) AD15(0,-11.43) AD16(1.27,-11.43) AD17(2.54,-11.43) AD18(3.81,-11.43) AD19(5.08,-11.43) AD20(6.35,-11.43) AD21(7.62,-11.43) AD22(8.89,-11.43) AD23(10.16,-11.43) AD24(11.43,-11.43) AD25(12.7,-11.43) AD26(13.97,-11.43) AD27(15.24,-11.43) AD28(16.51,-11.43) AD29(17.78,-11.43) AE1(-17.78,-12.7) AE2(-16.51,-12.7) AE3(-15.24,-12.7) AE4(-13.97,-12.7) AE5(-12.7,-12.7) AE6(-11.43,-12.7) AE7(-10.16,-12.7) AE8(-8.89,-12.7) AE9(-7.62,-12.7) AE10(-6.35,-12.7) AE11(-5.08,-12.7) AE12(-3.81,-12.7) AE13(-2.54,-12.7) AE14(-1.27,-12.7) AE15(0,-12.7) AE16(1.27,-12.7) AE17(2.54,-12.7) AE18(3.81,-12.7) AE19(5.08,-12.7) AE20(6.35,-12.7) AE21(7.62,-12.7) AE22(8.89,-12.7) AE23(10.16,-12.7) AE24(11.43,-12.7) AE25(12.7,-12.7) AE26(13.97,-12.7) AE27(15.24,-12.7) AE28(16.51,-12.7) AE29(17.78,-12.7) AF1(-17.78,-13.97) AF2(-16.51,-13.97) AF3(-15.24,-13.97) AF4(-13.97,-13.97) AF5(-12.7,-13.97) AF6(-11.43,-13.97) AF7(-10.16,-13.97) AF8(-8.89,-13.97) AF9(-7.62,-13.97) AF10(-6.35,-13.97) AF11(-5.08,-13.97) AF12(-3.81,-13.97) AF13(-2.54,-13.97) AF14(-1.27,-13.97) AF15(0,-13.97) AF16(1.27,-13.97) AF17(2.54,-13.97) AF18(3.81,-13.97) AF19(5.08,-13.97) AF20(6.35,-13.97) AF21(7.62,-13.97) AF22(8.89,-13.97) AF23(10.16,-13.97) AF24(11.43,-13.97) AF25(12.7,-13.97) AF26(13.97,-13.97) AF27(15.24,-13.97) AF28(16.51,-13.97) AF29(17.78,-13.97) AG1(-17.78,-15.24) AG2(-16.51,-15.24) AG3(-15.24,-15.24) AG4(-13.97,-15.24) AG5(-12.7,-15.24) AG6(-11.43,-15.24) AG7(-10.16,-15.24) AG8(-8.89,-15.24) AG9(-7.62,-15.24) AG10(-6.35,-15.24) AG11(-5.08,-15.24) AG12(-3.81,-15.24) AG13(-2.54,-15.24) AG14(-1.27,-15.24) AG15(0,-15.24) AG16(1.27,-15.24) AG17(2.54,-15.24) AG18(3.81,-15.24) AG19(5.08,-15.24) AG20(6.35,-15.24) AG21(7.62,-15.24) AG22(8.89,-15.24) AG23(10.16,-15.24) AG24(11.43,-15.24) AG25(12.7,-15.24) AG26(13.97,-15.24) AG27(15.24,-15.24) AG28(16.51,-15.24) AG29(17.78,-15.24) AH1(-17.78,-16.51) AH2(-16.51,-16.51) AH3(-15.24,-16.51) AH4(-13.97,-16.51) AH5(-12.7,-16.51) AH6(-11.43,-16.51) AH7(-10.16,-16.51) AH8(-8.89,-16.51) AH9(-7.62,-16.51) AH10(-6.35,-16.51) AH11(-5.08,-16.51) AH12(-3.81,-16.51) AH13(-2.54,-16.51) AH14(-1.27,-16.51) AH15(0,-16.51) AH16(1.27,-16.51) AH17(2.54,-16.51) AH18(3.81,-16.51) AH19(5.08,-16.51) AH20(6.35,-16.51) AH21(7.62,-16.51) AH22(8.89,-16.51) AH23(10.16,-16.51) AH24(11.43,-16.51) AH25(12.7,-16.51) AH26(13.97,-16.51) AH27(15.24,-16.51) AH28(16.51,-16.51) AH29(17.78,-16.51) AJ1(-17.78,-17.78) AJ2(-16.51,-17.78) AJ3(-15.24,-17.78) AJ4(-13.97,-17.78) AJ5(-12.7,-17.78) AJ6(-11.43,-17.78) AJ7(-10.16,-17.78) AJ8(-8.89,-17.78) AJ9(-7.62,-17.78) AJ10(-6.35,-17.78) AJ11(-5.08,-17.78) AJ12(-3.81,-17.78) AJ13(-2.54,-17.78) AJ14(-1.27,-17.78) AJ15(0,-17.78) AJ16(1.27,-17.78) AJ17(2.54,-17.78) AJ18(3.81,-17.78) AJ19(5.08,-17.78) AJ20(6.35,-17.78) AJ21(7.62,-17.78) AJ22(8.89,-17.78) AJ23(10.16,-17.78) AJ24(11.43,-17.78) AJ25(12.7,-17.78) AJ26(13.97,-17.78) AJ27(15.24,-17.78) AJ28(16.51,-17.78) AJ29(17.78,-17.78) B1(-17.78,16.51) B2(-16.51,16.51) B3(-15.24,16.51) B4(-13.97,16.51) B5(-12.7,16.51) B6(-11.43,16.51) B7(-10.16,16.51) B8(-8.89,16.51) B9(-7.62,16.51) B10(-6.35,16.51) B11(-5.08,16.51) B12(-3.81,16.51) B13(-2.54,16.51) B14(-1.27,16.51) B15(0,16.51) B16(1.27,16.51) B17(2.54,16.51) B18(3.81,16.51) B19(5.08,16.51) B20(6.35,16.51) B21(7.62,16.51) B22(8.89,16.51) B23(10.16,16.51) B24(11.43,16.51) B25(12.7,16.51) B26(13.97,16.51) B27(15.24,16.51) B28(16.51,16.51) B29(17.78,16.51) C1(-17.78,15.24) C2(-16.51,15.24) C3(-15.24,15.24) C4(-13.97,15.24) C5(-12.7,15.24) C6(-11.43,15.24) C7(-10.16,15.24) C8(-8.89,15.24) C9(-7.62,15.24) C10(-6.35,15.24) C11(-5.08,15.24) C12(-3.81,15.24) C13(-2.54,15.24) C14(-1.27,15.24) C15(0,15.24) C16(1.27,15.24) C17(2.54,15.24) C18(3.81,15.24) C19(5.08,15.24) C20(6.35,15.24) C21(7.62,15.24) C22(8.89,15.24) C23(10.16,15.24) C24(11.43,15.24) C25(12.7,15.24) C26(13.97,15.24) C27(15.24,15.24) C28(16.51,15.24) C29(17.78,15.24) D1(-17.78,13.97) D2(-16.51,13.97) D3(-15.24,13.97) D4(-13.97,13.97) D5(-12.7,13.97) D6(-11.43,13.97) D7(-10.16,13.97) D8(-8.89,13.97) D9(-7.62,13.97) D10(-6.35,13.97) D11(-5.08,13.97) D12(-3.81,13.97) D13(-2.54,13.97) D14(-1.27,13.97) D15(0,13.97) D16(1.27,13.97) D17(2.54,13.97) D18(3.81,13.97) D19(5.08,13.97) D20(6.35,13.97) D21(7.62,13.97) D22(8.89,13.97) D23(10.16,13.97) D24(11.43,13.97) D25(12.7,13.97) D26(13.97,13.97) D27(15.24,13.97) D28(16.51,13.97) D29(17.78,13.97) E1(-17.78,12.7) E2(-16.51,12.7) E3(-15.24,12.7) E4(-13.97,12.7) E5(-12.7,12.7) E6(-11.43,12.7) E7(-10.16,12.7) E8(-8.89,12.7) E9(-7.62,12.7) E10(-6.35,12.7) E11(-5.08,12.7) E12(-3.81,12.7) E13(-2.54,12.7) E14(-1.27,12.7) E15(0,12.7) E16(1.27,12.7) E17(2.54,12.7) E18(3.81,12.7) E19(5.08,12.7) E20(6.35,12.7) E21(7.62,12.7) E22(8.89,12.7) E23(10.16,12.7) E24(11.43,12.7) E25(12.7,12.7) E26(13.97,12.7) E27(15.24,12.7) E28(16.51,12.7) E29(17.78,12.7) F1(-17.78,11.43) F2(-16.51,11.43) F3(-15.24,11.43) F4(-13.97,11.43) F5(-12.7,11.43) F6(-11.43,11.43) F7(-10.16,11.43) F8(-8.89,11.43) F9(-7.62,11.43) F10(-6.35,11.43) F11(-5.08,11.43) F12(-3.81,11.43) F13(-2.54,11.43) F14(-1.27,11.43) F15(0,11.43) F16(1.27,11.43) F17(2.54,11.43) F18(3.81,11.43) F19(5.08,11.43) F20(6.35,11.43) F21(7.62,11.43) F22(8.89,11.43) F23(10.16,11.43) F24(11.43,11.43) F25(12.7,11.43) F26(13.97,11.43) F27(15.24,11.43) F28(16.51,11.43) F29(17.78,11.43) G1(-17.78,10.16) G2(-16.51,10.16) G3(-15.24,10.16) G4(-13.97,10.16) G5(-12.7,10.16) G6(-11.43,10.16) G7(-10.16,10.16) G8(-8.89,10.16) G9(-7.62,10.16) G10(-6.35,10.16) G11(-5.08,10.16) G12(-3.81,10.16) G13(-2.54,10.16) G14(-1.27,10.16) G15(0,10.16) G16(1.27,10.16) G17(2.54,10.16) G18(3.81,10.16) G19(5.08,10.16) G20(6.35,10.16) G21(7.62,10.16) G22(8.89,10.16) G23(10.16,10.16) G24(11.43,10.16) G25(12.7,10.16) G26(13.97,10.16) G27(15.24,10.16) G28(16.51,10.16) G29(17.78,10.16) H1(-17.78,8.89) H2(-16.51,8.89) H3(-15.24,8.89) H4(-13.97,8.89) H5(-12.7,8.89) H6(-11.43,8.89) H7(-10.16,8.89) H8(-8.89,8.89) H9(-7.62,8.89) H10(-6.35,8.89) H11(-5.08,8.89) H12(-3.81,8.89) H13(-2.54,8.89) H14(-1.27,8.89) H15(0,8.89) H16(1.27,8.89) H17(2.54,8.89) H18(3.81,8.89) H19(5.08,8.89) H20(6.35,8.89) H21(7.62,8.89) H22(8.89,8.89) H23(10.16,8.89) H24(11.43,8.89) H25(12.7,8.89) H26(13.97,8.89) H27(15.24,8.89) H28(16.51,8.89) H29(17.78,8.89) J1(-17.78,7.62) J2(-16.51,7.62) J3(-15.24,7.62) J4(-13.97,7.62) J5(-12.7,7.62) J6(-11.43,7.62) J7(-10.16,7.62) J8(-8.89,7.62) J9(-7.62,7.62) J10(-6.35,7.62) J11(-5.08,7.62) J12(-3.81,7.62) J13(-2.54,7.62) J14(-1.27,7.62) J15(0,7.62) J16(1.27,7.62) J17(2.54,7.62) J18(3.81,7.62) J19(5.08,7.62) J20(6.35,7.62) J21(7.62,7.62) J22(8.89,7.62) J23(10.16,7.62) J24(11.43,7.62) J25(12.7,7.62) J26(13.97,7.62) J27(15.24,7.62) J28(16.51,7.62) J29(17.78,7.62) K1(-17.78,6.35) K2(-16.51,6.35) K3(-15.24,6.35) K4(-13.97,6.35) K5(-12.7,6.35) K6(-11.43,6.35) K7(-10.16,6.35) K8(-8.89,6.35) K9(-7.62,6.35) K10(-6.35,6.35) K11(-5.08,6.35) K12(-3.81,6.35) K13(-2.54,6.35) K14(-1.27,6.35) K15(0,6.35) K16(1.27,6.35) K17(2.54,6.35) K18(3.81,6.35) K19(5.08,6.35) K20(6.35,6.35) K21(7.62,6.35) K22(8.89,6.35) K23(10.16,6.35) K24(11.43,6.35) K25(12.7,6.35) K26(13.97,6.35) K27(15.24,6.35) K28(16.51,6.35) K29(17.78,6.35) L1(-17.78,5.08) L2(-16.51,5.08) L3(-15.24,5.08) L4(-13.97,5.08) L5(-12.7,5.08) L6(-11.43,5.08) L7(-10.16,5.08) L8(-8.89,5.08) L9(-7.62,5.08) L10(-6.35,5.08) L11(-5.08,5.08) L12(-3.81,5.08) L13(-2.54,5.08) L14(-1.27,5.08) L15(0,5.08) L16(1.27,5.08) L17(2.54,5.08) L18(3.81,5.08) L19(5.08,5.08) L20(6.35,5.08) L21(7.62,5.08) L22(8.89,5.08) L23(10.16,5.08) L24(11.43,5.08) L25(12.7,5.08) L26(13.97,5.08) L27(15.24,5.08) L28(16.51,5.08) L29(17.78,5.08) M1(-17.78,3.81) M2(-16.51,3.81) M3(-15.24,3.81) M4(-13.97,3.81) M5(-12.7,3.81) M6(-11.43,3.81) M7(-10.16,3.81) M8(-8.89,3.81) M9(-7.62,3.81) M10(-6.35,3.81) M11(-5.08,3.81) M12(-3.81,3.81) M13(-2.54,3.81) M14(-1.27,3.81) M15(0,3.81) M16(1.27,3.81) M17(2.54,3.81) M18(3.81,3.81) M19(5.08,3.81) M20(6.35,3.81) M21(7.62,3.81) M22(8.89,3.81) M23(10.16,3.81) M24(11.43,3.81) M25(12.7,3.81) M26(13.97,3.81) M27(15.24,3.81) M28(16.51,3.81) M29(17.78,3.81) N1(-17.78,2.54) N2(-16.51,2.54) N3(-15.24,2.54) N4(-13.97,2.54) N5(-12.7,2.54) N6(-11.43,2.54) N7(-10.16,2.54) N8(-8.89,2.54) N9(-7.62,2.54) N10(-6.35,2.54) N11(-5.08,2.54) N12(-3.81,2.54) N13(-2.54,2.54) N14(-1.27,2.54) N15(0,2.54) N16(1.27,2.54) N17(2.54,2.54) N18(3.81,2.54) N19(5.08,2.54) N20(6.35,2.54) N21(7.62,2.54) N22(8.89,2.54) N23(10.16,2.54) N24(11.43,2.54) N25(12.7,2.54) N26(13.97,2.54) N27(15.24,2.54) N28(16.51,2.54) N29(17.78,2.54) P1(-17.78,1.27) P2(-16.51,1.27) P3(-15.24,1.27) P4(-13.97,1.27) P5(-12.7,1.27) P6(-11.43,1.27) P7(-10.16,1.27) P8(-8.89,1.27) P9(-7.62,1.27) P10(-6.35,1.27) P11(-5.08,1.27) P12(-3.81,1.27) P13(-2.54,1.27) P14(-1.27,1.27) P15(0,1.27) P16(1.27,1.27) P17(2.54,1.27) P18(3.81,1.27) P19(5.08,1.27) P20(6.35,1.27) P21(7.62,1.27) P22(8.89,1.27) P23(10.16,1.27) P24(11.43,1.27) P25(12.7,1.27) P26(13.97,1.27) P27(15.24,1.27) P28(16.51,1.27) P29(17.78,1.27) R1(-17.78,0) R2(-16.51,0) R3(-15.24,0) R4(-13.97,0) R5(-12.7,0) R6(-11.43,0) R7(-10.16,0) R8(-8.89,0) R9(-7.62,0) R10(-6.35,0) R11(-5.08,0) R12(-3.81,0) R13(-2.54,0) R14(-1.27,0) R15(0,0) R16(1.27,0) R17(2.54,0) R18(3.81,0) R19(5.08,0) R20(6.35,0) R21(7.62,0) R22(8.89,0) R23(10.16,0) R24(11.43,0) R25(12.7,0) R26(13.97,0) R27(15.24,0) R28(16.51,0) R29(17.78,0) T1(-17.78,-1.27) T2(-16.51,-1.27) T3(-15.24,-1.27) T4(-13.97,-1.27) T5(-12.7,-1.27) T6(-11.43,-1.27) T7(-10.16,-1.27) T8(-8.89,-1.27) T9(-7.62,-1.27) T10(-6.35,-1.27) T11(-5.08,-1.27) T12(-3.81,-1.27) T13(-2.54,-1.27) T14(-1.27,-1.27) T15(0,-1.27) T16(1.27,-1.27) T17(2.54,-1.27) T18(3.81,-1.27) T19(5.08,-1.27) T20(6.35,-1.27) T21(7.62,-1.27) T22(8.89,-1.27) T23(10.16,-1.27) T24(11.43,-1.27) T25(12.7,-1.27) T26(13.97,-1.27) T27(15.24,-1.27) T28(16.51,-1.27) T29(17.78,-1.27) U1(-17.78,-2.54) U2(-16.51,-2.54) U3(-15.24,-2.54) U4(-13.97,-2.54) U5(-12.7,-2.54) U6(-11.43,-2.54) U7(-10.16,-2.54) U8(-8.89,-2.54) U9(-7.62,-2.54) U10(-6.35,-2.54) U11(-5.08,-2.54) U12(-3.81,-2.54) U13(-2.54,-2.54) U14(-1.27,-2.54) U15(0,-2.54) U16(1.27,-2.54) U17(2.54,-2.54) U18(3.81,-2.54) U19(5.08,-2.54) U20(6.35,-2.54) U21(7.62,-2.54) U22(8.89,-2.54) U23(10.16,-2.54) U24(11.43,-2.54) U25(12.7,-2.54) U26(13.97,-2.54) U27(15.24,-2.54) U28(16.51,-2.54) U29(17.78,-2.54) V1(-17.78,-3.81) V2(-16.51,-3.81) V3(-15.24,-3.81) V4(-13.97,-3.81) V5(-12.7,-3.81) V6(-11.43,-3.81) V7(-10.16,-3.81) V8(-8.89,-3.81) V9(-7.62,-3.81) V10(-6.35,-3.81) V11(-5.08,-3.81) V12(-3.81,-3.81) V13(-2.54,-3.81) V14(-1.27,-3.81) V15(0,-3.81) V16(1.27,-3.81) V17(2.54,-3.81) V18(3.81,-3.81) V19(5.08,-3.81) V20(6.35,-3.81) V21(7.62,-3.81) V22(8.89,-3.81) V23(10.16,-3.81) V24(11.43,-3.81) V25(12.7,-3.81) V26(13.97,-3.81) V27(15.24,-3.81) V28(16.51,-3.81) V29(17.78,-3.81) W1(-17.78,-5.08) W2(-16.51,-5.08) W3(-15.24,-5.08) W4(-13.97,-5.08) W5(-12.7,-5.08) W6(-11.43,-5.08) W7(-10.16,-5.08) W8(-8.89,-5.08) W9(-7.62,-5.08) W10(-6.35,-5.08) W11(-5.08,-5.08) W12(-3.81,-5.08) W13(-2.54,-5.08) W14(-1.27,-5.08) W15(0,-5.08) W16(1.27,-5.08) W17(2.54,-5.08) W18(3.81,-5.08) W19(5.08,-5.08) W20(6.35,-5.08) W21(7.62,-5.08) W22(8.89,-5.08) W23(10.16,-5.08) W24(11.43,-5.08) W25(12.7,-5.08) W26(13.97,-5.08) W27(15.24,-5.08) W28(16.51,-5.08) W29(17.78,-5.08) Y1(-17.78,-6.35) Y2(-16.51,-6.35) Y3(-15.24,-6.35) Y4(-13.97,-6.35) Y5(-12.7,-6.35) Y6(-11.43,-6.35) Y7(-10.16,-6.35) Y8(-8.89,-6.35) Y9(-7.62,-6.35) Y10(-6.35,-6.35) Y11(-5.08,-6.35) Y12(-3.81,-6.35) Y13(-2.54,-6.35) Y14(-1.27,-6.35) Y15(0,-6.35) Y16(1.27,-6.35) Y17(2.54,-6.35) Y18(3.81,-6.35) Y19(5.08,-6.35) Y20(6.35,-6.35) Y21(7.62,-6.35) Y22(8.89,-6.35) Y23(10.16,-6.35) Y24(11.43,-6.35) Y25(12.7,-6.35) Y26(13.97,-6.35) Y27(15.24,-6.35) Y28(16.51,-6.35) Y29(17.78,-6.35)
Top Overlay:
  circle w0.25: c-19.41,17.78 r0.125
  lines w0.2: -18.755,-17.785 -17.795,-18.745 17.785,-18.745 18.745,-17.785 18.745,17.795 17.785,18.755 -18.755,18.755 -18.755,-17.785